# Altium schematic symbol library Cap Pol3.Schlib: 1 symbol
Pins are listed as number, name and electrical type; pins without a type are passive.

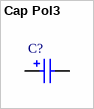
[diagram p0: symbol Cap Pol3]

## Cap Pol3
designator C?  (value not drawn)
Polarized Capacitor (Surface Mount)
pins: 1, 2
1 alternate drawing of the same symbol